# Altium integrated library WE-LHMI (rev22a).IntLib: 164 symbols (part 1 of 4)
Pins are listed as number, name and electrical type; pins without a type are passive.

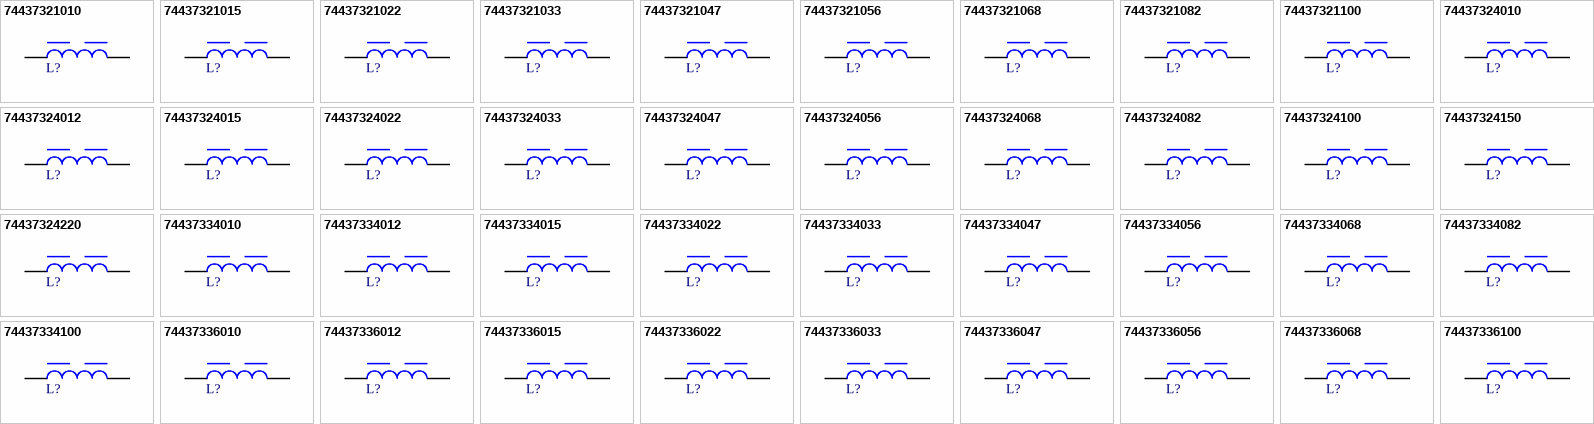
[diagram p0: symbols 74437321010 to 74437336100]

## 74437321010
designator L?, comment 1µH, 4.5A  (value not drawn)
WE-LHMI SMT Power Inductor, size 4012, 1µH, 4.5A, 47mΩ; Manufacturer Part Number: 74437321010; Manufacturer: Wurth Elektronik; Case/Size Code: 4012; DC Resistance: 41mΩ; Saturation Current @10%: 5.65A; Saturation Current @30%: 10A; Self Resonant Frequency: 90MHz; ComponentLink1Description: Website Link; ComponentLink1URL: https://www.we-online.com/redexpert/article/74437321010?ad; ComponentLink2Description: Datasheet Link; ComponentLink2URL: https://www.we-online.com/redexpert/spec/74437321010?ad; Category: Shielded Power Inductors; Match Code: WE-LHMI; Mount: Surface Mount; Operating Temperature Max: 125°C; Operating Temperature Min: -40°C; Packaging: Tape and Reel; Length: 4.06mm; Width: 4.06mm; Height: 1mm; DC Resistance Max: 47mΩ; Inductance: 1µH; Performance Rated Current: 4.5A
footprint WE-LHMI_4012
pins: 1, 2

## 74437321015
designator L?, comment 1.5µH, 3.9A  (value not drawn)
WE-LHMI SMT Power Inductor, size 4012, 1.5µH, 3.9A, 63.3mΩ; Manufacturer Part Number: 74437321015; Manufacturer: Wurth Elektronik; Case/Size Code: 4012; DC Resistance: 55mΩ; Saturation Current @10%: 2.7A; Saturation Current @30%: 5.1A; Self Resonant Frequency: 60MHz; ComponentLink1Description: Website Link; ComponentLink1URL: https://www.we-online.com/redexpert/article/74437321015?ad; ComponentLink2Description: Datasheet Link; ComponentLink2URL: https://www.we-online.com/redexpert/spec/74437321015?ad; Category: Shielded Power Inductors; Match Code: WE-LHMI; Mount: Surface Mount; Operating Temperature Max: 125°C; Operating Temperature Min: -40°C; Packaging: Tape and Reel; Length: 4.06mm; Width: 4.06mm; Height: 1mm; DC Resistance Max: 63.3mΩ; Inductance: 1.5µH; Performance Rated Current: 3.9A
footprint WE-LHMI_4012
pins: 1, 2

## 74437321022
designator L?, comment 2.2µH, 3.5A  (value not drawn)
WE-LHMI SMT Power Inductor, size 4012, 2.2µH, 3.5A, 80mΩ; Manufacturer Part Number: 74437321022; Manufacturer: Wurth Elektronik; Case/Size Code: 4012; DC Resistance: 69.2mΩ; Saturation Current @10%: 3.2A; Saturation Current @30%: 6.2A; Self Resonant Frequency: 55MHz; ComponentLink1Description: Website Link; ComponentLink1URL: https://www.we-online.com/redexpert/article/74437321022?ad; ComponentLink2Description: Datasheet Link; ComponentLink2URL: https://www.we-online.com/redexpert/spec/74437321022?ad; Category: Shielded Power Inductors; Match Code: WE-LHMI; Mount: Surface Mount; Operating Temperature Max: 125°C; Operating Temperature Min: -40°C; Packaging: Tape and Reel; Length: 4.06mm; Width: 4.06mm; Height: 1mm; DC Resistance Max: 80mΩ; Inductance: 2.2µH; Performance Rated Current: 3.5A
footprint WE-LHMI_4012
pins: 1, 2

## 74437321033
designator L?, comment 3.3µH, 3.15A  (value not drawn)
WE-LHMI SMT Power Inductor, size 4012, 3.3µH, 3.15A, 97mΩ; Manufacturer Part Number: 74437321033; Manufacturer: Wurth Elektronik; Case/Size Code: 4012; DC Resistance: 84mΩ; Saturation Current @10%: 2.6A; Saturation Current @30%: 4.8A; Self Resonant Frequency: 40MHz; ComponentLink1Description: Website Link; ComponentLink1URL: https://www.we-online.com/redexpert/article/74437321033?ad; ComponentLink2Description: Datasheet Link; ComponentLink2URL: https://www.we-online.com/redexpert/spec/74437321033?ad; Category: Shielded Power Inductors; Match Code: WE-LHMI; Mount: Surface Mount; Operating Temperature Max: 125°C; Operating Temperature Min: -40°C; Packaging: Tape and Reel; Length: 4.06mm; Width: 4.06mm; Height: 1mm; DC Resistance Max: 97mΩ; Inductance: 3.3µH; Performance Rated Current: 3.15A
footprint WE-LHMI_4012
pins: 1, 2

## 74437321047
designator L?, comment 4.7µH, 2.55A  (value not drawn)
WE-LHMI SMT Power Inductor, size 4012, 4.7µH, 2.55A, 145mΩ; Manufacturer Part Number: 74437321047; Manufacturer: Wurth Elektronik; Case/Size Code: 4012; DC Resistance: 128mΩ; Saturation Current @10%: 2.1A; Saturation Current @30%: 4.1A; Self Resonant Frequency: 34MHz; ComponentLink1Description: Website Link; ComponentLink1URL: https://www.we-online.com/redexpert/article/74437321047?ad; ComponentLink2Description: Datasheet Link; ComponentLink2URL: https://www.we-online.com/redexpert/spec/74437321047?ad; Category: Shielded Power Inductors; Match Code: WE-LHMI; Mount: Surface Mount; Operating Temperature Max: 125°C; Operating Temperature Min: -40°C; Packaging: Tape and Reel; Length: 4.06mm; Width: 4.06mm; Height: 1mm; DC Resistance Max: 145mΩ; Inductance: 4.7µH; Performance Rated Current: 2.55A
footprint WE-LHMI_4012
pins: 1, 2

## 74437321056
designator L?, comment 5.6µH, 2.15A  (value not drawn)
WE-LHMI SMT Power Inductor, size 4012, 5.6µH, 2.15A, 208mΩ; Manufacturer Part Number: 74437321056; Manufacturer: Wurth Elektronik; Case/Size Code: 4012; DC Resistance: 180mΩ; Saturation Current @10%: 1.95A; Saturation Current @30%: 3.65A; Self Resonant Frequency: 28MHz; ComponentLink1Description: Website Link; ComponentLink1URL: https://www.we-online.com/redexpert/article/74437321056?ad; ComponentLink2Description: Datasheet Link; ComponentLink2URL: https://www.we-online.com/redexpert/spec/74437321056?ad; Category: Shielded Power Inductors; Match Code: WE-LHMI; Mount: Surface Mount; Operating Temperature Max: 125°C; Operating Temperature Min: -40°C; Packaging: Tape and Reel; Length: 4.06mm; Width: 4.06mm; Height: 1mm; DC Resistance Max: 208mΩ; Inductance: 5.6µH; Performance Rated Current: 2.15A
footprint WE-LHMI_4012
pins: 1, 2

## 74437321068
designator L?, comment 6.8µH, 1.65A  (value not drawn)
WE-LHMI SMT Power Inductor, size 4012, 6.8µH, 1.65A, 360mΩ; Manufacturer Part Number: 74437321068; Manufacturer: Wurth Elektronik; Case/Size Code: 4012; DC Resistance: 300mΩ; Saturation Current @30%: 3.05A; Self Resonant Frequency: 25MHz; ComponentLink1Description: Website Link; ComponentLink1URL: https://www.we-online.com/redexpert/article/74437321068?ad; ComponentLink2Description: Datasheet Link; ComponentLink2URL: https://www.we-online.com/redexpert/spec/74437321068?ad; Category: Shielded Power Inductors; Match Code: WE-LHMI; Mount: Surface Mount; Operating Temperature Max: 125°C; Operating Temperature Min: -40°C; Packaging: Tape and Reel; Length: 4.06mm; Width: 4.06mm; Height: 1mm; DC Resistance Max: 360mΩ; Inductance: 6.8µH; Performance Rated Current: 1.65A; Saturation Current @10%: 1.65A
footprint WE-LHMI_4012
pins: 1, 2

## 74437321082
designator L?, comment 8.2µH, 1.6A  (value not drawn)
WE-LHMI SMT Power Inductor, size 4012, 8.2µH, 1.6A, 376mΩ; Manufacturer Part Number: 74437321082; Manufacturer: Wurth Elektronik; Case/Size Code: 4012; DC Resistance: 313mΩ; Saturation Current @10%: 1.65A; Saturation Current @30%: 2.85A; Self Resonant Frequency: 24MHz; ComponentLink1Description: Website Link; ComponentLink1URL: https://www.we-online.com/redexpert/article/74437321082?ad; ComponentLink2Description: Datasheet Link; ComponentLink2URL: https://www.we-online.com/redexpert/spec/74437321082?ad; Category: Shielded Power Inductors; Match Code: WE-LHMI; Mount: Surface Mount; Operating Temperature Max: 125°C; Operating Temperature Min: -40°C; Packaging: Tape and Reel; Length: 4.06mm; Width: 4.06mm; Height: 1mm; DC Resistance Max: 376mΩ; Inductance: 8.2µH; Performance Rated Current: 1.6A
footprint WE-LHMI_4012
pins: 1, 2

## 74437321100
designator L?, comment 10µH, 1.4A  (value not drawn)
WE-LHMI SMT Power Inductor, size 4012, 10µH, 1.4A, 463mΩ; Manufacturer Part Number: 74437321100; Manufacturer: Wurth Elektronik; Case/Size Code: 4012; DC Resistance: 410mΩ; Saturation Current @10%: 1.5A; Saturation Current @30%: 2.65A; Self Resonant Frequency: 23MHz; ComponentLink1Description: Website Link; ComponentLink1URL: https://www.we-online.com/redexpert/article/74437321100?ad; ComponentLink2Description: Datasheet Link; ComponentLink2URL: https://www.we-online.com/redexpert/spec/74437321100?ad; Category: Shielded Power Inductors; Match Code: WE-LHMI; Mount: Surface Mount; Operating Temperature Max: 125°C; Operating Temperature Min: -40°C; Packaging: Tape and Reel; Length: 4.06mm; Width: 4.06mm; Height: 1mm; DC Resistance Max: 463mΩ; Inductance: 10µH; Performance Rated Current: 1.4A
footprint WE-LHMI_4012
pins: 1, 2

## 74437324010
designator L?, comment 1µH, 6.2A  (value not drawn)
WE-LHMI SMT Power Inductor, size 4020, 1µH, 6.2A, 27mΩ; Manufacturer Part Number: 74437324010; Manufacturer: Wurth Elektronik; Case/Size Code: 4020; DC Resistance: 22mΩ; Saturation Current @10%: 6.5A; Saturation Current @30%: 12.5A; Self Resonant Frequency: 89MHz; ComponentLink1Description: Website Link; ComponentLink1URL: https://www.we-online.com/redexpert/article/74437324010?ad; ComponentLink2Description: Datasheet Link; ComponentLink2URL: https://www.we-online.com/redexpert/spec/74437324010?ad; Category: Shielded Power Inductors; Match Code: WE-LHMI; Mount: Surface Mount; Operating Temperature Max: 125°C; Operating Temperature Min: -40°C; Packaging: Tape and Reel; Length: 4.06mm; Width: 4.06mm; Height: 1.8mm; DC Resistance Max: 27mΩ; Inductance: 1µH; Performance Rated Current: 6.2A
footprint WE-LHMI_4020
pins: 1, 2

## 74437324012
designator L?, comment 1.2µH, 5.85A  (value not drawn)
WE-LHMI SMT Power Inductor, size 4020, 1.2µH, 5.85A, 30mΩ; Manufacturer Part Number: 74437324012; Manufacturer: Wurth Elektronik; Case/Size Code: 4020; DC Resistance: 25mΩ; Saturation Current @10%: 6.3A; Saturation Current @30%: 11.6A; Self Resonant Frequency: 71MHz; ComponentLink1Description: Website Link; ComponentLink1URL: https://www.we-online.com/redexpert/article/74437324012?ad; ComponentLink2Description: Datasheet Link; ComponentLink2URL: https://www.we-online.com/redexpert/spec/74437324012?ad; Category: Shielded Power Inductors; Match Code: WE-LHMI; Mount: Surface Mount; Operating Temperature Max: 125°C; Operating Temperature Min: -40°C; Packaging: Tape and Reel; Length: 4.06mm; Width: 4.06mm; Height: 1.8mm; DC Resistance Max: 30mΩ; Inductance: 1.2µH; Performance Rated Current: 5.85A
footprint WE-LHMI_4020
pins: 1, 2

## 74437324015
designator L?, comment 1.5µH, 4.9A  (value not drawn)
WE-LHMI SMT Power Inductor, size 4020, 1.5µH, 4.9A, 42mΩ; Manufacturer Part Number: 74437324015; Manufacturer: Wurth Elektronik; Case/Size Code: 4020; DC Resistance: 34.8mΩ; Saturation Current @10%: 5.65A; Saturation Current @30%: 10.1A; Self Resonant Frequency: 64MHz; ComponentLink1Description: Website Link; ComponentLink1URL: https://www.we-online.com/redexpert/article/74437324015?ad; ComponentLink2Description: Datasheet Link; ComponentLink2URL: https://www.we-online.com/redexpert/spec/74437324015?ad; Category: Shielded Power Inductors; Match Code: WE-LHMI; Mount: Surface Mount; Operating Temperature Max: 125°C; Operating Temperature Min: -40°C; Packaging: Tape and Reel; Length: 4.06mm; Width: 4.06mm; Height: 1.8mm; DC Resistance Max: 42mΩ; Inductance: 1.5µH; Performance Rated Current: 4.9A
footprint WE-LHMI_4020
pins: 1, 2

## 74437324022
designator L?, comment 2.2µH, 4.05A  (value not drawn)
WE-LHMI SMT Power Inductor, size 4020, 2.2µH, 4.05A, 61mΩ; Manufacturer Part Number: 74437324022; Manufacturer: Wurth Elektronik; Case/Size Code: 4020; DC Resistance: 51mΩ; Saturation Current @10%: 4.45A; Saturation Current @30%: 8.4A; Self Resonant Frequency: 49MHz; ComponentLink1Description: Website Link; ComponentLink1URL: https://www.we-online.com/redexpert/article/74437324022?ad; ComponentLink2Description: Datasheet Link; ComponentLink2URL: https://www.we-online.com/redexpert/spec/74437324022?ad; Category: Shielded Power Inductors; Match Code: WE-LHMI; Mount: Surface Mount; Operating Temperature Max: 125°C; Operating Temperature Min: -40°C; Packaging: Tape and Reel; Length: 4.06mm; Width: 4.06mm; Height: 1.8mm; DC Resistance Max: 61mΩ; Inductance: 2.2µH; Performance Rated Current: 4.05A
footprint WE-LHMI_4020
pins: 1, 2

## 74437324033
designator L?, comment 3.3µH, 3.5A  (value not drawn)
WE-LHMI SMT Power Inductor, size 4020, 3.3µH, 3.5A, 76mΩ; Manufacturer Part Number: 74437324033; Manufacturer: Wurth Elektronik; Case/Size Code: 4020; DC Resistance: 69mΩ; Saturation Current @10%: 2.75A; Saturation Current @30%: 5.45A; Self Resonant Frequency: 40MHz; ComponentLink1Description: Website Link; ComponentLink1URL: https://www.we-online.com/redexpert/article/74437324033?ad; ComponentLink2Description: Datasheet Link; ComponentLink2URL: https://www.we-online.com/redexpert/spec/74437324033?ad; Category: Shielded Power Inductors; Match Code: WE-LHMI; Mount: Surface Mount; Operating Temperature Max: 125°C; Operating Temperature Min: -40°C; Packaging: Tape and Reel; Length: 4.06mm; Width: 4.06mm; Height: 1.8mm; DC Resistance Max: 76mΩ; Inductance: 3.3µH; Performance Rated Current: 3.5A
footprint WE-LHMI_4020
pins: 1, 2

## 74437324047
designator L?, comment 4.7µH, 2.95A  (value not drawn)
WE-LHMI SMT Power Inductor, size 4020, 4.7µH, 2.95A, 105mΩ; Manufacturer Part Number: 74437324047; Manufacturer: Wurth Elektronik; Case/Size Code: 4020; DC Resistance: 95mΩ; Saturation Current @10%: 2.45A; Saturation Current @30%: 5.4A; Self Resonant Frequency: 31MHz; ComponentLink1Description: Website Link; ComponentLink1URL: https://www.we-online.com/redexpert/article/74437324047?ad; ComponentLink2Description: Datasheet Link; ComponentLink2URL: https://www.we-online.com/redexpert/spec/74437324047?ad; Category: Shielded Power Inductors; Match Code: WE-LHMI; Mount: Surface Mount; Operating Temperature Max: 125°C; Operating Temperature Min: -40°C; Packaging: Tape and Reel; Length: 4.06mm; Width: 4.06mm; Height: 1.8mm; DC Resistance Max: 105mΩ; Inductance: 4.7µH; Performance Rated Current: 2.95A
footprint WE-LHMI_4020
pins: 1, 2

## 74437324056
designator L?, comment 5.6µH, 2.6A  (value not drawn)
WE-LHMI SMT Power Inductor, size 4020, 5.6µH, 2.6A, 125mΩ; Manufacturer Part Number: 74437324056; Manufacturer: Wurth Elektronik; Case/Size Code: 4020; DC Resistance: 120mΩ; Saturation Current @10%: 2.4A; Saturation Current @30%: 5.1A; Self Resonant Frequency: 30MHz; ComponentLink1Description: Website Link; ComponentLink1URL: https://www.we-online.com/redexpert/article/74437324056?ad; ComponentLink2Description: Datasheet Link; ComponentLink2URL: https://www.we-online.com/redexpert/spec/74437324056?ad; Category: Shielded Power Inductors; Match Code: WE-LHMI; Mount: Surface Mount; Operating Temperature Max: 125°C; Operating Temperature Min: -40°C; Packaging: Tape and Reel; Length: 4.06mm; Width: 4.06mm; Height: 1.8mm; DC Resistance Max: 125mΩ; Inductance: 5.6µH; Performance Rated Current: 2.6A
footprint WE-LHMI_4020
pins: 1, 2

## 74437324068
designator L?, comment 6.8µH, 2.35A  (value not drawn)
WE-LHMI SMT Power Inductor, size 4020, 6.8µH, 2.35A, 172mΩ; Manufacturer Part Number: 74437324068; Manufacturer: Wurth Elektronik; Case/Size Code: 4020; DC Resistance: 150mΩ; Saturation Current @10%: 2.4A; Saturation Current @30%: 4.75A; Self Resonant Frequency: 29MHz; ComponentLink1Description: Website Link; ComponentLink1URL: https://www.we-online.com/redexpert/article/74437324068?ad; ComponentLink2Description: Datasheet Link; ComponentLink2URL: https://www.we-online.com/redexpert/spec/74437324068?ad; Category: Shielded Power Inductors; Match Code: WE-LHMI; Mount: Surface Mount; Operating Temperature Max: 125°C; Operating Temperature Min: -40°C; Packaging: Tape and Reel; Length: 4.06mm; Width: 4.06mm; Height: 1.8mm; DC Resistance Max: 172mΩ; Inductance: 6.8µH; Performance Rated Current: 2.35A
footprint WE-LHMI_4020
pins: 1, 2

## 74437324082
designator L?, comment 8.2µH, 2.3A  (value not drawn)
WE-LHMI SMT Power Inductor, size 4020, 8.2µH, 2.3A, 180mΩ; Manufacturer Part Number: 74437324082; Manufacturer: Wurth Elektronik; Case/Size Code: 4020; DC Resistance: 158mΩ; Saturation Current @10%: 1.8A; Saturation Current @30%: 3.8A; Self Resonant Frequency: 22MHz; ComponentLink1Description: Website Link; ComponentLink1URL: https://www.we-online.com/redexpert/article/74437324082?ad; ComponentLink2Description: Datasheet Link; ComponentLink2URL: https://www.we-online.com/redexpert/spec/74437324082?ad; Category: Shielded Power Inductors; Match Code: WE-LHMI; Mount: Surface Mount; Operating Temperature Max: 125°C; Operating Temperature Min: -40°C; Packaging: Tape and Reel; Length: 4.06mm; Width: 4.06mm; Height: 1.8mm; DC Resistance Max: 180mΩ; Inductance: 8.2µH; Performance Rated Current: 2.3A
footprint WE-LHMI_4020
pins: 1, 2

## 74437324100
designator L?, comment 10µH, 1.95A  (value not drawn)
WE-LHMI SMT Power Inductor, size 4020, 10µH, 1.95A, 243mΩ; Manufacturer Part Number: 74437324100; Manufacturer: Wurth Elektronik; Case/Size Code: 4020; DC Resistance: 215mΩ; Saturation Current @10%: 1.5A; Saturation Current @30%: 3.15A; Self Resonant Frequency: 23MHz; ComponentLink1Description: Website Link; ComponentLink1URL: https://www.we-online.com/redexpert/article/74437324100?ad; ComponentLink2Description: Datasheet Link; ComponentLink2URL: https://www.we-online.com/redexpert/spec/74437324100?ad; Category: Shielded Power Inductors; Match Code: WE-LHMI; Mount: Surface Mount; Operating Temperature Max: 125°C; Operating Temperature Min: -40°C; Packaging: Tape and Reel; Length: 4.06mm; Width: 4.06mm; Height: 1.8mm; DC Resistance Max: 243mΩ; Inductance: 10µH; Performance Rated Current: 1.95A
footprint WE-LHMI_4020
pins: 1, 2

## 74437324150
designator L?, comment 15µH, 1.6A  (value not drawn)
WE-LHMI SMT Power Inductor, size 4020, 15µH, 1.6A, 374mΩ; Manufacturer Part Number: 74437324150; Manufacturer: Wurth Elektronik; Case/Size Code: 4020; DC Resistance: 325mΩ; Saturation Current @10%: 1.35A; Saturation Current @30%: 2.75A; Self Resonant Frequency: 17MHz; ComponentLink1Description: Website Link; ComponentLink1URL: https://www.we-online.com/redexpert/article/74437324150?ad; ComponentLink2Description: Datasheet Link; ComponentLink2URL: https://www.we-online.com/redexpert/spec/74437324150?ad; Category: Shielded Power Inductors; Match Code: WE-LHMI; Mount: Surface Mount; Operating Temperature Max: 125°C; Operating Temperature Min: -40°C; Packaging: Tape and Reel; Length: 4.06mm; Width: 4.06mm; Height: 1.8mm; DC Resistance Max: 374mΩ; Inductance: 15µH; Performance Rated Current: 1.6A
footprint WE-LHMI_4020
pins: 1, 2

## 74437324220
designator L?, comment 22µH, 1.3A  (value not drawn)
WE-LHMI SMT Power Inductor, size 4020, 22µH, 1.3A, 500mΩ; Manufacturer Part Number: 74437324220; Manufacturer: Wurth Elektronik; Case/Size Code: 4020; DC Resistance: 470mΩ; Saturation Current @10%: 1.45A; Saturation Current @30%: 2.35A; Self Resonant Frequency: 14MHz; ComponentLink1Description: Website Link; ComponentLink1URL: https://www.we-online.com/redexpert/article/74437324220?ad; ComponentLink2Description: Datasheet Link; ComponentLink2URL: https://www.we-online.com/redexpert/spec/74437324220?ad; Category: Shielded Power Inductors; Match Code: WE-LHMI; Mount: Surface Mount; Operating Temperature Max: 125°C; Operating Temperature Min: -40°C; Packaging: Tape and Reel; Length: 4.06mm; Width: 4.06mm; Height: 1.8mm; DC Resistance Max: 500mΩ; Inductance: 22µH; Performance Rated Current: 1.3A
footprint WE-LHMI_4020
pins: 1, 2

## 74437334010
designator L?, comment 1µH, 7.4A  (value not drawn)
WE-LHMI SMT Power Inductor, size 5020, 1µH, 7.4A, 20mΩ; Manufacturer Part Number: 74437334010; Manufacturer: Wurth Elektronik; Case/Size Code: 5020; DC Resistance: 17.5mΩ; Saturation Current @10%: 9.2A; Saturation Current @30%: 17.7A; Self Resonant Frequency: 65MHz; ComponentLink1Description: Website Link; ComponentLink1URL: https://www.we-online.com/redexpert/article/74437334010?ad; ComponentLink2Description: Datasheet Link; ComponentLink2URL: https://www.we-online.com/redexpert/spec/74437334010?ad; Category: Shielded Power Inductors; Match Code: WE-LHMI; Mount: Surface Mount; Operating Temperature Max: 125°C; Operating Temperature Min: -40°C; Packaging: Tape and Reel; Length: 5.2mm; Width: 5.2mm; Height: 1.8mm; DC Resistance Max: 20mΩ; Inductance: 1µH; Performance Rated Current: 7.4A
footprint WE-LHMI_5020
pins: 1, 2

## 74437334012
designator L?, comment 1.2µH, 6.4A  (value not drawn)
WE-LHMI SMT Power Inductor, size 5020, 1.2µH, 6.4A, 28mΩ; Manufacturer Part Number: 74437334012; Manufacturer: Wurth Elektronik; Case/Size Code: 5020; DC Resistance: 23mΩ; Saturation Current @10%: 7.5A; Saturation Current @30%: 14A; Self Resonant Frequency: 60MHz; ComponentLink1Description: Website Link; ComponentLink1URL: https://www.we-online.com/redexpert/article/74437334012?ad; ComponentLink2Description: Datasheet Link; ComponentLink2URL: https://www.we-online.com/redexpert/spec/74437334012?ad; Category: Shielded Power Inductors; Match Code: WE-LHMI; Mount: Surface Mount; Operating Temperature Max: 125°C; Operating Temperature Min: -40°C; Packaging: Tape and Reel; Length: 5.2mm; Width: 5.2mm; Height: 1.8mm; DC Resistance Max: 28mΩ; Inductance: 1.2µH; Performance Rated Current: 6.4A
footprint WE-LHMI_5020
pins: 1, 2

## 74437334015
designator L?, comment 1.5µH, 6A  (value not drawn)
WE-LHMI SMT Power Inductor, size 5020, 1.5µH, 6A, 30.5mΩ; Manufacturer Part Number: 74437334015; Manufacturer: Wurth Elektronik; Case/Size Code: 5020; DC Resistance: 26.5mΩ; Saturation Current @10%: 6.6A; Saturation Current @30%: 13.6A; Self Resonant Frequency: 50MHz; ComponentLink1Description: Website Link; ComponentLink1URL: https://www.we-online.com/redexpert/article/74437334015?ad; ComponentLink2Description: Datasheet Link; ComponentLink2URL: https://www.we-online.com/redexpert/spec/74437334015?ad; Category: Shielded Power Inductors; Match Code: WE-LHMI; Mount: Surface Mount; Operating Temperature Max: 125°C; Operating Temperature Min: -40°C; Packaging: Tape and Reel; Length: 5.2mm; Width: 5.2mm; Height: 1.8mm; DC Resistance Max: 30.5mΩ; Inductance: 1.5µH; Performance Rated Current: 6A
footprint WE-LHMI_5020
pins: 1, 2

## 74437334022
designator L?, comment 2.2µH, 4.75A  (value not drawn)
WE-LHMI SMT Power Inductor, size 5020, 2.2µH, 4.75A, 50mΩ; Manufacturer Part Number: 74437334022; Manufacturer: Wurth Elektronik; Case/Size Code: 5020; DC Resistance: 42mΩ; Saturation Current @10%: 6.4A; Saturation Current @30%: 11.9A; Self Resonant Frequency: 46MHz; ComponentLink1Description: Website Link; ComponentLink1URL: https://www.we-online.com/redexpert/article/74437334022?ad; ComponentLink2Description: Datasheet Link; ComponentLink2URL: https://www.we-online.com/redexpert/spec/74437334022?ad; Category: Shielded Power Inductors; Match Code: WE-LHMI; Mount: Surface Mount; Operating Temperature Max: 125°C; Operating Temperature Min: -40°C; Packaging: Tape and Reel; Length: 5.2mm; Width: 5.2mm; Height: 1.8mm; DC Resistance Max: 50mΩ; Inductance: 2.2µH; Performance Rated Current: 4.75A
footprint WE-LHMI_5020
pins: 1, 2

## 74437334033
designator L?, comment 3.3µH, 3.75A  (value not drawn)
WE-LHMI SMT Power Inductor, size 5020, 3.3µH, 3.75A, 76mΩ; Manufacturer Part Number: 74437334033; Manufacturer: Wurth Elektronik; Case/Size Code: 5020; DC Resistance: 66mΩ; Saturation Current @10%: 5.25A; Saturation Current @30%: 9.6A; Self Resonant Frequency: 35MHz; ComponentLink1Description: Website Link; ComponentLink1URL: https://www.we-online.com/redexpert/article/74437334033?ad; ComponentLink2Description: Datasheet Link; ComponentLink2URL: https://www.we-online.com/redexpert/spec/74437334033?ad; Category: Shielded Power Inductors; Match Code: WE-LHMI; Mount: Surface Mount; Operating Temperature Max: 125°C; Operating Temperature Min: -40°C; Packaging: Tape and Reel; Length: 5.2mm; Width: 5.2mm; Height: 1.8mm; DC Resistance Max: 76mΩ; Inductance: 3.3µH; Performance Rated Current: 3.75A
footprint WE-LHMI_5020
pins: 1, 2

## 74437334047
designator L?, comment 4.7µH, 3A  (value not drawn)
WE-LHMI SMT Power Inductor, size 5020, 4.7µH, 3A, 116mΩ; Manufacturer Part Number: 74437334047; Manufacturer: Wurth Elektronik; Case/Size Code: 5020; DC Resistance: 103mΩ; Saturation Current @10%: 4.1A; Saturation Current @30%: 7.5A; Self Resonant Frequency: 27MHz; ComponentLink1Description: Website Link; ComponentLink1URL: https://www.we-online.com/redexpert/article/74437334047?ad; ComponentLink2Description: Datasheet Link; ComponentLink2URL: https://www.we-online.com/redexpert/spec/74437334047?ad; Category: Shielded Power Inductors; Match Code: WE-LHMI; Mount: Surface Mount; Operating Temperature Max: 125°C; Operating Temperature Min: -40°C; Packaging: Tape and Reel; Length: 5.2mm; Width: 5.2mm; Height: 1.8mm; DC Resistance Max: 116mΩ; Inductance: 4.7µH; Performance Rated Current: 3A
footprint WE-LHMI_5020
pins: 1, 2

## 74437334056
designator L?, comment 5.6µH, 2.85A  (value not drawn)
WE-LHMI SMT Power Inductor, size 5020, 5.6µH, 2.85A, 122mΩ; Manufacturer Part Number: 74437334056; Manufacturer: Wurth Elektronik; Case/Size Code: 5020; DC Resistance: 112mΩ; Saturation Current @10%: 3.7A; Saturation Current @30%: 7A; Self Resonant Frequency: 21MHz; ComponentLink1Description: Website Link; ComponentLink1URL: https://www.we-online.com/redexpert/article/74437334056?ad; ComponentLink2Description: Datasheet Link; ComponentLink2URL: https://www.we-online.com/redexpert/spec/74437334056?ad; Category: Shielded Power Inductors; Match Code: WE-LHMI; Mount: Surface Mount; Operating Temperature Max: 125°C; Operating Temperature Min: -40°C; Packaging: Tape and Reel; Length: 5.2mm; Width: 5.2mm; Height: 1.8mm; DC Resistance Max: 122mΩ; Inductance: 5.6µH; Performance Rated Current: 2.85A
footprint WE-LHMI_5020
pins: 1, 2

## 74437334068
designator L?, comment 6.8µH, 2.65A  (value not drawn)
WE-LHMI SMT Power Inductor, size 5020, 6.8µH, 2.65A, 150mΩ; Manufacturer Part Number: 74437334068; Manufacturer: Wurth Elektronik; Case/Size Code: 5020; DC Resistance: 130mΩ; Saturation Current @10%: 3.05A; Saturation Current @30%: 5.55A; Self Resonant Frequency: 20.5MHz; ComponentLink1Description: Website Link; ComponentLink1URL: https://www.we-online.com/redexpert/article/74437334068?ad; ComponentLink2Description: Datasheet Link; ComponentLink2URL: https://www.we-online.com/redexpert/spec/74437334068?ad; Category: Shielded Power Inductors; Match Code: WE-LHMI; Mount: Surface Mount; Operating Temperature Max: 125°C; Operating Temperature Min: -40°C; Packaging: Tape and Reel; Length: 5.2mm; Width: 5.2mm; Height: 1.8mm; DC Resistance Max: 150mΩ; Inductance: 6.8µH; Performance Rated Current: 2.65A
footprint WE-LHMI_5020
pins: 1, 2

## 74437334082
designator L?, comment 8.2µH, 2.5A  (value not drawn)
WE-LHMI SMT Power Inductor, size 5020, 8.2µH, 2.5A, 171mΩ; Manufacturer Part Number: 74437334082; Manufacturer: Wurth Elektronik; Case/Size Code: 5020; DC Resistance: 148mΩ; Saturation Current @10%: 3A; Saturation Current @30%: 5.65A; Self Resonant Frequency: 20MHz; ComponentLink1Description: Website Link; ComponentLink1URL: https://www.we-online.com/redexpert/article/74437334082?ad; ComponentLink2Description: Datasheet Link; ComponentLink2URL: https://www.we-online.com/redexpert/spec/74437334082?ad; Category: Shielded Power Inductors; Match Code: WE-LHMI; Mount: Surface Mount; Operating Temperature Max: 125°C; Operating Temperature Min: -40°C; Packaging: Tape and Reel; Length: 5.2mm; Width: 5.2mm; Height: 1.8mm; DC Resistance Max: 171mΩ; Inductance: 8.2µH; Performance Rated Current: 2.5A
footprint WE-LHMI_5020
pins: 1, 2

## 74437334100
designator L?, comment 10µH, 2.25A  (value not drawn)
WE-LHMI SMT Power Inductor, size 5020, 10µH, 2.25A, 199mΩ; Manufacturer Part Number: 74437334100; Manufacturer: Wurth Elektronik; Case/Size Code: 5020; DC Resistance: 180mΩ; Saturation Current @10%: 2.7A; Saturation Current @30%: 5.15A; Self Resonant Frequency: 16MHz; ComponentLink1Description: Website Link; ComponentLink1URL: https://www.we-online.com/redexpert/article/74437334100?ad; ComponentLink2Description: Datasheet Link; ComponentLink2URL: https://www.we-online.com/redexpert/spec/74437334100?ad; Category: Shielded Power Inductors; Match Code: WE-LHMI; Mount: Surface Mount; Operating Temperature Max: 125°C; Operating Temperature Min: -40°C; Packaging: Tape and Reel; Length: 5.2mm; Width: 5.2mm; Height: 1.8mm; DC Resistance Max: 199mΩ; Inductance: 10µH; Performance Rated Current: 2.25A
footprint WE-LHMI_5020
pins: 1, 2

## 74437336010
designator L?, comment 1µH, 8.6A  (value not drawn)
WE-LHMI SMT Power Inductor, size 5030, 1µH, 8.6A, 14mΩ; Manufacturer Part Number: 74437336010; Manufacturer: Wurth Elektronik; Case/Size Code: 5030; DC Resistance: 13mΩ; Saturation Current @10%: 7.4A; Saturation Current @30%: 14.2A; Self Resonant Frequency: 60MHz; ComponentLink1Description: Website Link; ComponentLink1URL: https://www.we-online.com/redexpert/article/74437336010?ad; ComponentLink2Description: Datasheet Link; ComponentLink2URL: https://www.we-online.com/redexpert/spec/74437336010?ad; Category: Shielded Power Inductors; Match Code: WE-LHMI; Mount: Surface Mount; Operating Temperature Max: 125°C; Operating Temperature Min: -40°C; Packaging: Tape and Reel; Length: 5.2mm; Width: 5.2mm; Height: 2.8mm; DC Resistance Max: 14mΩ; Inductance: 1µH; Performance Rated Current: 8.6A
footprint WE-LHMI_5030
pins: 1, 2

## 74437336012
designator L?, comment 1.2µH, 8.3A  (value not drawn)
WE-LHMI SMT Power Inductor, size 5030, 1.2µH, 8.3A, 16mΩ; Manufacturer Part Number: 74437336012; Manufacturer: Wurth Elektronik; Case/Size Code: 5030; DC Resistance: 14mΩ; Saturation Current @10%: 7.5A; Saturation Current @30%: 13.9A; Self Resonant Frequency: 50MHz; ComponentLink1Description: Website Link; ComponentLink1URL: https://www.we-online.com/redexpert/article/74437336012?ad; ComponentLink2Description: Datasheet Link; ComponentLink2URL: https://www.we-online.com/redexpert/spec/74437336012?ad; Category: Shielded Power Inductors; Match Code: WE-LHMI; Mount: Surface Mount; Operating Temperature Max: 125°C; Operating Temperature Min: -40°C; Packaging: Tape and Reel; Length: 5.2mm; Width: 5.2mm; Height: 2.8mm; DC Resistance Max: 16mΩ; Inductance: 1.2µH; Performance Rated Current: 8.3A
footprint WE-LHMI_5030
pins: 1, 2

## 74437336015
designator L?, comment 1.5µH, 7.8A  (value not drawn)
WE-LHMI SMT Power Inductor, size 5030, 1.5µH, 7.8A, 25mΩ; Manufacturer Part Number: 74437336015; Manufacturer: Wurth Elektronik; Case/Size Code: 5030; DC Resistance: 16mΩ; Saturation Current @10%: 7.7A; Saturation Current @30%: 14.2A; Self Resonant Frequency: 45MHz; ComponentLink1Description: Website Link; ComponentLink1URL: https://www.we-online.com/redexpert/article/74437336015?ad; ComponentLink2Description: Datasheet Link; ComponentLink2URL: https://www.we-online.com/redexpert/spec/74437336015?ad; Category: Shielded Power Inductors; Match Code: WE-LHMI; Mount: Surface Mount; Operating Temperature Max: 125°C; Operating Temperature Min: -40°C; Packaging: Tape and Reel; Length: 5.2mm; Width: 5.2mm; Height: 2.8mm; DC Resistance Max: 25mΩ; Inductance: 1.5µH; Performance Rated Current: 7.8A
footprint WE-LHMI_5030
pins: 1, 2

## 74437336022
designator L?, comment 2.2µH, 6.2A  (value not drawn)
WE-LHMI SMT Power Inductor, size 5030, 2.2µH, 6.2A, 35mΩ; Manufacturer Part Number: 74437336022; Manufacturer: Wurth Elektronik; Case/Size Code: 5030; DC Resistance: 25mΩ; Saturation Current @10%: 7A; Saturation Current @30%: 14A; Self Resonant Frequency: 42MHz; ComponentLink1Description: Website Link; ComponentLink1URL: https://www.we-online.com/redexpert/article/74437336022?ad; ComponentLink2Description: Datasheet Link; ComponentLink2URL: https://www.we-online.com/redexpert/spec/74437336022?ad; Category: Shielded Power Inductors; Match Code: WE-LHMI; Mount: Surface Mount; Operating Temperature Max: 125°C; Operating Temperature Min: -40°C; Packaging: Tape and Reel; Length: 5.2mm; Width: 5.2mm; Height: 2.8mm; DC Resistance Max: 35mΩ; Inductance: 2.2µH; Performance Rated Current: 6.2A
footprint WE-LHMI_5030
pins: 1, 2

## 74437336033
designator L?, comment 3.3µH, 5.45A  (value not drawn)
WE-LHMI SMT Power Inductor, size 5030, 3.3µH, 5.45A, 38mΩ; Manufacturer Part Number: 74437336033; Manufacturer: Wurth Elektronik; Case/Size Code: 5030; DC Resistance: 32mΩ; Saturation Current @10%: 5.55A; Saturation Current @30%: 10.9A; Self Resonant Frequency: 27MHz; ComponentLink1Description: Website Link; ComponentLink1URL: https://www.we-online.com/redexpert/article/74437336033?ad; ComponentLink2Description: Datasheet Link; ComponentLink2URL: https://www.we-online.com/redexpert/spec/74437336033?ad; Category: Shielded Power Inductors; Match Code: WE-LHMI; Mount: Surface Mount; Operating Temperature Max: 125°C; Operating Temperature Min: -40°C; Packaging: Tape and Reel; Length: 5.2mm; Width: 5.2mm; Height: 2.8mm; DC Resistance Max: 38mΩ; Inductance: 3.3µH; Performance Rated Current: 5.45A
footprint WE-LHMI_5030
pins: 1, 2

## 74437336047
designator L?, comment 4.7µH, 4.35A  (value not drawn)
WE-LHMI SMT Power Inductor, size 5030, 4.7µH, 4.35A, 53mΩ; Manufacturer Part Number: 74437336047; Manufacturer: Wurth Elektronik; Case/Size Code: 5030; DC Resistance: 50mΩ; Saturation Current @10%: 3.85A; Saturation Current @30%: 7.6A; Self Resonant Frequency: 25MHz; ComponentLink1Description: Website Link; ComponentLink1URL: https://www.we-online.com/redexpert/article/74437336047?ad; ComponentLink2Description: Datasheet Link; ComponentLink2URL: https://www.we-online.com/redexpert/spec/74437336047?ad; Category: Shielded Power Inductors; Match Code: WE-LHMI; Mount: Surface Mount; Operating Temperature Max: 125°C; Operating Temperature Min: -40°C; Packaging: Tape and Reel; Length: 5.2mm; Width: 5.2mm; Height: 2.8mm; DC Resistance Max: 53mΩ; Inductance: 4.7µH; Performance Rated Current: 4.35A
footprint WE-LHMI_5030
pins: 1, 2

## 74437336056
designator L?, comment 5.6µH, 4.15A  (value not drawn)
WE-LHMI SMT Power Inductor, size 5030, 5.6µH, 4.15A, 63mΩ; Manufacturer Part Number: 74437336056; Manufacturer: Wurth Elektronik; Case/Size Code: 5030; DC Resistance: 55mΩ; Saturation Current @10%: 3.85A; Saturation Current @30%: 7.7A; Self Resonant Frequency: 22MHz; ComponentLink1Description: Website Link; ComponentLink1URL: https://www.we-online.com/redexpert/article/74437336056?ad; ComponentLink2Description: Datasheet Link; ComponentLink2URL: https://www.we-online.com/redexpert/spec/74437336056?ad; Category: Shielded Power Inductors; Match Code: WE-LHMI; Mount: Surface Mount; Operating Temperature Max: 125°C; Operating Temperature Min: -40°C; Packaging: Tape and Reel; Length: 5.2mm; Width: 5.2mm; Height: 2.8mm; DC Resistance Max: 63mΩ; Inductance: 5.6µH; Performance Rated Current: 4.15A
footprint WE-LHMI_5030
pins: 1, 2

## 74437336068
designator L?, comment 6.8µH, 3.75A  (value not drawn)
WE-LHMI SMT Power Inductor, size 5030, 6.8µH, 3.75A, 76.2mΩ; Manufacturer Part Number: 74437336068; Manufacturer: Wurth Elektronik; Case/Size Code: 5030; DC Resistance: 68mΩ; Saturation Current @10%: 2.9A; Saturation Current @30%: 5.9A; Self Resonant Frequency: 20MHz; ComponentLink1Description: Website Link; ComponentLink1URL: https://www.we-online.com/redexpert/article/74437336068?ad; ComponentLink2Description: Datasheet Link; ComponentLink2URL: https://www.we-online.com/redexpert/spec/74437336068?ad; Category: Shielded Power Inductors; Match Code: WE-LHMI; Mount: Surface Mount; Operating Temperature Max: 125°C; Operating Temperature Min: -40°C; Packaging: Tape and Reel; Length: 5.2mm; Width: 5.2mm; Height: 2.8mm; DC Resistance Max: 76.2mΩ; Inductance: 6.8µH; Performance Rated Current: 3.75A
footprint WE-LHMI_5030
pins: 1, 2

## 74437336100
designator L?, comment 10µH, 2.9A  (value not drawn)
WE-LHMI SMT Power Inductor, size 5030, 10µH, 2.9A, 128mΩ; Manufacturer Part Number: 74437336100; Manufacturer: Wurth Elektronik; Case/Size Code: 5030; DC Resistance: 110mΩ; Saturation Current @10%: 2.8A; Saturation Current @30%: 5.35A; Self Resonant Frequency: 16MHz; ComponentLink1Description: Website Link; ComponentLink1URL: https://www.we-online.com/redexpert/article/74437336100?ad; ComponentLink2Description: Datasheet Link; ComponentLink2URL: https://www.we-online.com/redexpert/spec/74437336100?ad; Category: Shielded Power Inductors; Match Code: WE-LHMI; Mount: Surface Mount; Operating Temperature Max: 125°C; Operating Temperature Min: -40°C; Packaging: Tape and Reel; Length: 5.2mm; Width: 5.2mm; Height: 2.8mm; DC Resistance Max: 128mΩ; Inductance: 10µH; Performance Rated Current: 2.9A
footprint WE-LHMI_5030
pins: 1, 2

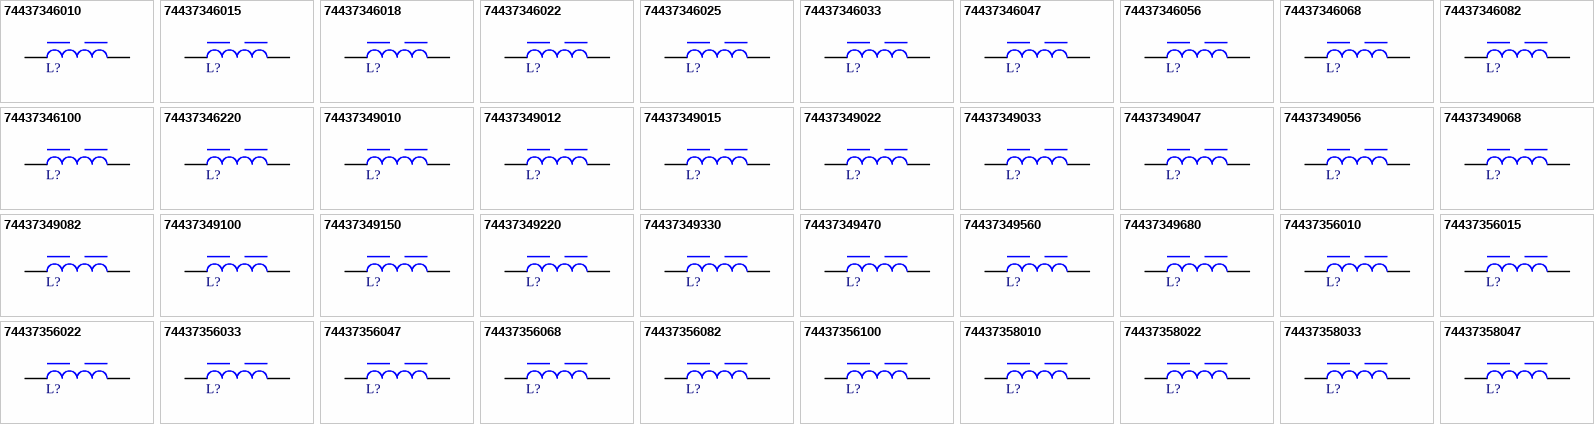
[diagram p1: symbols 74437346010 to 74437358047]

## 74437346010
designator L?, comment 1µH, 11.4A  (value not drawn)
WE-LHMI SMT Power Inductor, size 7030, 1µH, 11.4A, 10mΩ; Manufacturer Part Number: 74437346010; Manufacturer: Wurth Elektronik; Case/Size Code: 7030; DC Resistance: 8.3mΩ; Saturation Current @10%: 14.7A; Saturation Current @30%: 29A; Self Resonant Frequency: 54MHz; ComponentLink1Description: Website Link; ComponentLink1URL: https://www.we-online.com/redexpert/article/74437346010?ad; ComponentLink2Description: Datasheet Link; ComponentLink2URL: https://www.we-online.com/redexpert/spec/74437346010?ad; Category: Shielded Power Inductors; Match Code: WE-LHMI; Mount: Surface Mount; Operating Temperature Max: 125°C; Operating Temperature Min: -40°C; Packaging: Tape and Reel; Length: 6.6mm; Width: 6.6mm; Height: 2.8mm; DC Resistance Max: 10mΩ; Inductance: 1µH; Performance Rated Current: 11.4A
footprint WE-LHMI_7030
pins: 1, 2

## 74437346015
designator L?, comment 1.5µH, 9.1A  (value not drawn)
WE-LHMI SMT Power Inductor, size 7030, 1.5µH, 9.1A, 15mΩ; Manufacturer Part Number: 74437346015; Manufacturer: Wurth Elektronik; Case/Size Code: 7030; DC Resistance: 13mΩ; Saturation Current @10%: 11.2A; Saturation Current @30%: 27.6A; Self Resonant Frequency: 45MHz; ComponentLink1Description: Website Link; ComponentLink1URL: https://www.we-online.com/redexpert/article/74437346015?ad; ComponentLink2Description: Datasheet Link; ComponentLink2URL: https://www.we-online.com/redexpert/spec/74437346015?ad; Category: Shielded Power Inductors; Match Code: WE-LHMI; Mount: Surface Mount; Operating Temperature Max: 125°C; Operating Temperature Min: -40°C; Packaging: Tape and Reel; Length: 6.6mm; Width: 6.6mm; Height: 2.8mm; DC Resistance Max: 15mΩ; Inductance: 1.5µH; Performance Rated Current: 9.1A
footprint WE-LHMI_7030
pins: 1, 2

## 74437346018
designator L?, comment 1.8µH, 8.8A  (value not drawn)
WE-LHMI SMT Power Inductor, size 7030, 1.8µH, 8.8A, 17mΩ; Manufacturer Part Number: 74437346018; Manufacturer: Wurth Elektronik; Case/Size Code: 7030; DC Resistance: 14mΩ; Saturation Current @10%: 10.2A; Saturation Current @30%: 21.4A; Self Resonant Frequency: 35MHz; ComponentLink1Description: Website Link; ComponentLink1URL: https://www.we-online.com/redexpert/article/74437346018?ad; ComponentLink2Description: Datasheet Link; ComponentLink2URL: https://www.we-online.com/redexpert/spec/74437346018?ad; Category: Shielded Power Inductors; Match Code: WE-LHMI; Mount: Surface Mount; Operating Temperature Max: 125°C; Operating Temperature Min: -40°C; Packaging: Tape and Reel; Length: 6.6mm; Width: 6.6mm; Height: 2.8mm; DC Resistance Max: 17mΩ; Inductance: 1.8µH; Performance Rated Current: 8.8A
footprint WE-LHMI_7030
pins: 1, 2

## 74437346022
designator L?, comment 2.2µH, 7.7A  (value not drawn)
WE-LHMI SMT Power Inductor, size 7030, 2.2µH, 7.7A, 20mΩ; Manufacturer Part Number: 74437346022; Manufacturer: Wurth Elektronik; Case/Size Code: 7030; DC Resistance: 18mΩ; Saturation Current @10%: 10A; Saturation Current @30%: 19.1A; Self Resonant Frequency: 32MHz; ComponentLink1Description: Website Link; ComponentLink1URL: https://www.we-online.com/redexpert/article/74437346022?ad; ComponentLink2Description: Datasheet Link; ComponentLink2URL: https://www.we-online.com/redexpert/spec/74437346022?ad; Category: Shielded Power Inductors; Match Code: WE-LHMI; Mount: Surface Mount; Operating Temperature Max: 125°C; Operating Temperature Min: -40°C; Packaging: Tape and Reel; Length: 6.6mm; Width: 6.6mm; Height: 2.8mm; DC Resistance Max: 20mΩ; Inductance: 2.2µH; Performance Rated Current: 7.7A
footprint WE-LHMI_7030
pins: 1, 2

## 74437346025
designator L?, comment 2.5µH, 7.3A  (value not drawn)
WE-LHMI SMT Power Inductor, size 7030, 2.5µH, 7.3A, 22mΩ; Manufacturer Part Number: 74437346025; Manufacturer: Wurth Elektronik; Case/Size Code: 7030; DC Resistance: 20mΩ; Saturation Current @10%: 8.5A; Saturation Current @30%: 17.3A; Self Resonant Frequency: 30MHz; ComponentLink1Description: Website Link; ComponentLink1URL: https://www.we-online.com/redexpert/article/74437346025?ad; ComponentLink2Description: Datasheet Link; ComponentLink2URL: https://www.we-online.com/redexpert/spec/74437346025?ad; Category: Shielded Power Inductors; Match Code: WE-LHMI; Mount: Surface Mount; Operating Temperature Max: 125°C; Operating Temperature Min: -40°C; Packaging: Tape and Reel; Length: 6.6mm; Width: 6.6mm; Height: 2.8mm; DC Resistance Max: 22mΩ; Inductance: 2.5µH; Performance Rated Current: 7.3A
footprint WE-LHMI_7030
pins: 1, 2

## 74437346033
designator L?, comment 3.3µH, 6.2A  (value not drawn)
WE-LHMI SMT Power Inductor, size 7030, 3.3µH, 6.2A, 30mΩ; Manufacturer Part Number: 74437346033; Manufacturer: Wurth Elektronik; Case/Size Code: 7030; DC Resistance: 28mΩ; Saturation Current @10%: 8.4A; Saturation Current @30%: 16.6A; Self Resonant Frequency: 27MHz; ComponentLink1Description: Website Link; ComponentLink1URL: https://www.we-online.com/redexpert/article/74437346033?ad; ComponentLink2Description: Datasheet Link; ComponentLink2URL: https://www.we-online.com/redexpert/spec/74437346033?ad; Category: Shielded Power Inductors; Match Code: WE-LHMI; Mount: Surface Mount; Operating Temperature Max: 125°C; Operating Temperature Min: -40°C; Packaging: Tape and Reel; Length: 6.6mm; Width: 6.6mm; Height: 2.8mm; DC Resistance Max: 30mΩ; Inductance: 3.3µH; Performance Rated Current: 6.2A
footprint WE-LHMI_7030
pins: 1, 2

## 74437346047
designator L?, comment 4.7µH, 5.35A  (value not drawn)
WE-LHMI SMT Power Inductor, size 7030, 4.7µH, 5.35A, 40mΩ; Manufacturer Part Number: 74437346047; Manufacturer: Wurth Elektronik; Case/Size Code: 7030; DC Resistance: 37mΩ; Saturation Current @10%: 7.5A; Saturation Current @30%: 15.5A; Self Resonant Frequency: 22MHz; ComponentLink1Description: Website Link; ComponentLink1URL: https://www.we-online.com/redexpert/article/74437346047?ad; ComponentLink2Description: Datasheet Link; ComponentLink2URL: https://www.we-online.com/redexpert/spec/74437346047?ad; Category: Shielded Power Inductors; Match Code: WE-LHMI; Mount: Surface Mount; Operating Temperature Max: 125°C; Operating Temperature Min: -40°C; Packaging: Tape and Reel; Length: 6.6mm; Width: 6.6mm; Height: 2.8mm; DC Resistance Max: 40mΩ; Inductance: 4.7µH; Performance Rated Current: 5.35A
footprint WE-LHMI_7030
pins: 1, 2

## 74437346056
designator L?, comment 5.6µH, 5A  (value not drawn)
WE-LHMI SMT Power Inductor, size 7030, 5.6µH, 5A, 48mΩ; Manufacturer Part Number: 74437346056; Manufacturer: Wurth Elektronik; Case/Size Code: 7030; DC Resistance: 43mΩ; Saturation Current @10%: 5.9A; Saturation Current @30%: 12.1A; Self Resonant Frequency: 20MHz; ComponentLink1Description: Website Link; ComponentLink1URL: https://www.we-online.com/redexpert/article/74437346056?ad; ComponentLink2Description: Datasheet Link; ComponentLink2URL: https://www.we-online.com/redexpert/spec/74437346056?ad; Category: Shielded Power Inductors; Match Code: WE-LHMI; Mount: Surface Mount; Operating Temperature Max: 125°C; Operating Temperature Min: -40°C; Packaging: Tape and Reel; Length: 6.6mm; Width: 6.6mm; Height: 2.8mm; DC Resistance Max: 48mΩ; Inductance: 5.6µH; Performance Rated Current: 5A
footprint WE-LHMI_7030
pins: 1, 2

## 74437346068
designator L?, comment 6.8µH, 4.45A  (value not drawn)
WE-LHMI SMT Power Inductor, size 7030, 6.8µH, 4.45A, 60mΩ; Manufacturer Part Number: 74437346068; Manufacturer: Wurth Elektronik; Case/Size Code: 7030; DC Resistance: 54mΩ; Saturation Current @10%: 5.45A; Saturation Current @30%: 10.6A; Self Resonant Frequency: 18MHz; ComponentLink1Description: Website Link; ComponentLink1URL: https://www.we-online.com/redexpert/article/74437346068?ad; ComponentLink2Description: Datasheet Link; ComponentLink2URL: https://www.we-online.com/redexpert/spec/74437346068?ad; Category: Shielded Power Inductors; Match Code: WE-LHMI; Mount: Surface Mount; Operating Temperature Max: 125°C; Operating Temperature Min: -40°C; Packaging: Tape and Reel; Length: 6.6mm; Width: 6.6mm; Height: 2.8mm; DC Resistance Max: 60mΩ; Inductance: 6.8µH; Performance Rated Current: 4.45A
footprint WE-LHMI_7030
pins: 1, 2

## 74437346082
designator L?, comment 8.2µH, 4.1A  (value not drawn)
WE-LHMI SMT Power Inductor, size 7030, 8.2µH, 4.1A, 68mΩ; Manufacturer Part Number: 74437346082; Manufacturer: Wurth Elektronik; Case/Size Code: 7030; DC Resistance: 64mΩ; Saturation Current @10%: 5.1A; Saturation Current @30%: 10.1A; Self Resonant Frequency: 17MHz; ComponentLink1Description: Website Link; ComponentLink1URL: https://www.we-online.com/redexpert/article/74437346082?ad; ComponentLink2Description: Datasheet Link; ComponentLink2URL: https://www.we-online.com/redexpert/spec/74437346082?ad; Category: Shielded Power Inductors; Match Code: WE-LHMI; Mount: Surface Mount; Operating Temperature Max: 125°C; Operating Temperature Min: -40°C; Packaging: Tape and Reel; Length: 6.6mm; Width: 6.6mm; Height: 2.8mm; DC Resistance Max: 68mΩ; Inductance: 8.2µH; Performance Rated Current: 4.1A
footprint WE-LHMI_7030
pins: 1, 2

## 74437346100
designator L?, comment 10µH, 3.75A  (value not drawn)
WE-LHMI SMT Power Inductor, size 7030, 10µH, 3.75A, 85mΩ; Manufacturer Part Number: 74437346100; Manufacturer: Wurth Elektronik; Case/Size Code: 7030; DC Resistance: 75mΩ; Saturation Current @10%: 5A; Saturation Current @30%: 9.8A; Self Resonant Frequency: 15MHz; ComponentLink1Description: Website Link; ComponentLink1URL: https://www.we-online.com/redexpert/article/74437346100?ad; ComponentLink2Description: Datasheet Link; ComponentLink2URL: https://www.we-online.com/redexpert/spec/74437346100?ad; Category: Shielded Power Inductors; Match Code: WE-LHMI; Mount: Surface Mount; Operating Temperature Max: 125°C; Operating Temperature Min: -40°C; Packaging: Tape and Reel; Length: 6.6mm; Width: 6.6mm; Height: 2.8mm; DC Resistance Max: 85mΩ; Inductance: 10µH; Performance Rated Current: 3.75A
footprint WE-LHMI_7030
pins: 1, 2

## 74437346220
designator L?, comment 22µH, 2.5A  (value not drawn)
WE-LHMI SMT Power Inductor, size 7030, 22µH, 2.5A, 190mΩ; Manufacturer Part Number: 74437346220; Manufacturer: Wurth Elektronik; Case/Size Code: 7030; DC Resistance: 165mΩ; Saturation Current @10%: 2.75A; Saturation Current @30%: 5.95A; Self Resonant Frequency: 10MHz; ComponentLink1Description: Website Link; ComponentLink1URL: https://www.we-online.com/redexpert/article/74437346220?ad; ComponentLink2Description: Datasheet Link; ComponentLink2URL: https://www.we-online.com/redexpert/spec/74437346220?ad; Category: Shielded Power Inductors; Match Code: WE-LHMI; Mount: Surface Mount; Operating Temperature Max: 125°C; Operating Temperature Min: -40°C; Packaging: Tape and Reel; Length: 6.6mm; Width: 6.6mm; Height: 2.8mm; DC Resistance Max: 190mΩ; Inductance: 22µH; Performance Rated Current: 2.5A
footprint WE-LHMI_7030
pins: 1, 2

## 74437349010
designator L?, comment 1µH, 13.4A  (value not drawn)
WE-LHMI SMT Power Inductor, size 7050, 1µH, 13.4A, 6.5mΩ; Manufacturer Part Number: 74437349010; Manufacturer: Wurth Elektronik; Case/Size Code: 7050; DC Resistance: 6.1mΩ; Saturation Current @10%: 13A; Saturation Current @30%: 25.8A; Self Resonant Frequency: 51MHz; ComponentLink1Description: Website Link; ComponentLink1URL: https://www.we-online.com/redexpert/article/74437349010?ad; ComponentLink2Description: Datasheet Link; ComponentLink2URL: https://www.we-online.com/redexpert/spec/74437349010?ad; Category: Shielded Power Inductors; Match Code: WE-LHMI; Mount: Surface Mount; Operating Temperature Max: 125°C; Operating Temperature Min: -40°C; Packaging: Tape and Reel; Length: 6.6mm; Width: 6.6mm; Height: 4.8mm; DC Resistance Max: 6.5mΩ; Inductance: 1µH; Performance Rated Current: 13.4A
footprint WE-LHMI_7050
pins: 1, 2

## 74437349012
designator L?, comment 1.2µH, 12.4A  (value not drawn)
WE-LHMI SMT Power Inductor, size 7050, 1.2µH, 12.4A, 7.5mΩ; Manufacturer Part Number: 74437349012; Manufacturer: Wurth Elektronik; Case/Size Code: 7050; DC Resistance: 7.2mΩ; Saturation Current @10%: 12A; Saturation Current @30%: 24A; Self Resonant Frequency: 45MHz; ComponentLink1Description: Website Link; ComponentLink1URL: https://www.we-online.com/redexpert/article/74437349012?ad; ComponentLink2Description: Datasheet Link; ComponentLink2URL: https://www.we-online.com/redexpert/spec/74437349012?ad; Category: Shielded Power Inductors; Match Code: WE-LHMI; Mount: Surface Mount; Operating Temperature Max: 125°C; Operating Temperature Min: -40°C; Packaging: Tape and Reel; Length: 6.6mm; Width: 6.6mm; Height: 4.8mm; DC Resistance Max: 7.5mΩ; Inductance: 1.2µH; Performance Rated Current: 12.4A
footprint WE-LHMI_7050
pins: 1, 2